# EAGLE library part 68713614022 (library Wurth_Elektronik_Electromechanic_FPC_Connectors_&_Flat_Flexible_Cable_rev16a)
0.5MM ZIF FPC HORIZONTAL TOP CONTACT TYPE - TAPE & REEL PACKAGING MATERIAL: Insulator Material LCP Insulator Color Ivory Contact Material Phosphor Bronze Contact Plating 100 (µ) Tin over 50 (µ) Nickel Contact Type Stamped Actuator Material LCP Actuator Color Black ELECTRICAL PROPERTIES Rated Current 0.5A Working Voltage 50 V (AC) Withstanding Voltage 250 Contact Resistance 20 mΩ Insulation Resistance 100 MΩ <http://katalog.we-online.de/media/images/v2/Family_WE-FPC_6871xx14022.jpg> Details see: http://katalog.we-online.de/en/em/FPC_0_5_SMT_ZIF_HORIZONTAL_TOP_CONTACT_6871XX14022/68713614022 2015 (C) Wurth Elektronik
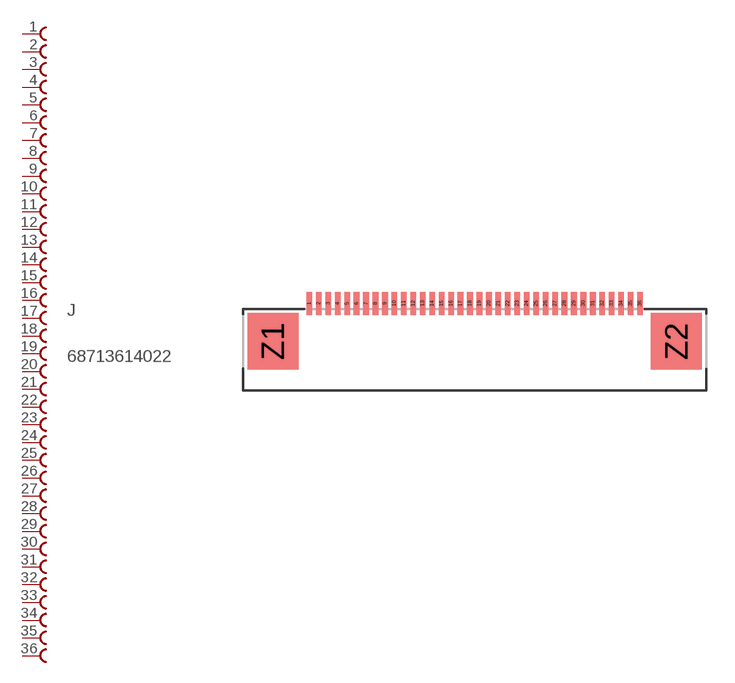
[diagram p151: symbol with the pads of 68713614022; footprint 68713614022]

Designator prefix J

## 68713614022  [68713614022]
1  1  pas
2  2  pas
3  3  pas
4  4  pas
5  5  pas
6  6  pas
7  7  pas
8  8  pas
9  9  pas
10  10  pas
11  11  pas
12  12  pas
13  13  pas
14  14  pas
15  15  pas
16  16  pas
17  17  pas
18  18  pas
19  19  pas
20  20  pas
21  21  pas
22  22  pas
23  23  pas
24  24  pas
25  25  pas
26  26  pas
27  27  pas
28  28  pas
29  29  pas
30  30  pas
31  31  pas
32  32  pas
33  33  pas
34  34  pas
35  35  pas
36  36  pas

## Footprint 68713614022 (pad centres in mm)
smd 0.3 x 1.2: 1 -8.75,2; 2 -8.25,2; 3 -7.75,2; 4 -7.25,2; 5 -6.75,2; 6 -6.25,2; 7 -5.75,2; 8 -5.25,2; 9 -4.75,2; 10 -4.25,2; 11 -3.75,2; 12 -3.25,2; 13 -2.75,2; 14 -2.25,2; 15 -1.75,2; 16 -1.25,2; 17 -0.75,2; 18 -0.25,2; 19 0.25,2; 20 0.75,2; 21 1.25,2; 22 1.75,2; 23 2.25,2; 24 2.75,2; 25 3.25,2; 26 3.75,2; 27 4.25,2; 28 4.75,2; 29 5.25,2; 30 5.75,2; 31 6.25,2; 32 6.75,2; 33 7.25,2; 34 7.75,2; 35 8.25,2; 36 8.75,2
smd 2.7 x 3: Z1 -10.68,0; Z2 10.68,0